# Altium schematic symbol library Interface_CAN_LIN.SchLib: 97 symbols (part 1 of 2)
Pins are listed as number, name and electrical type; pins without a type are passive.

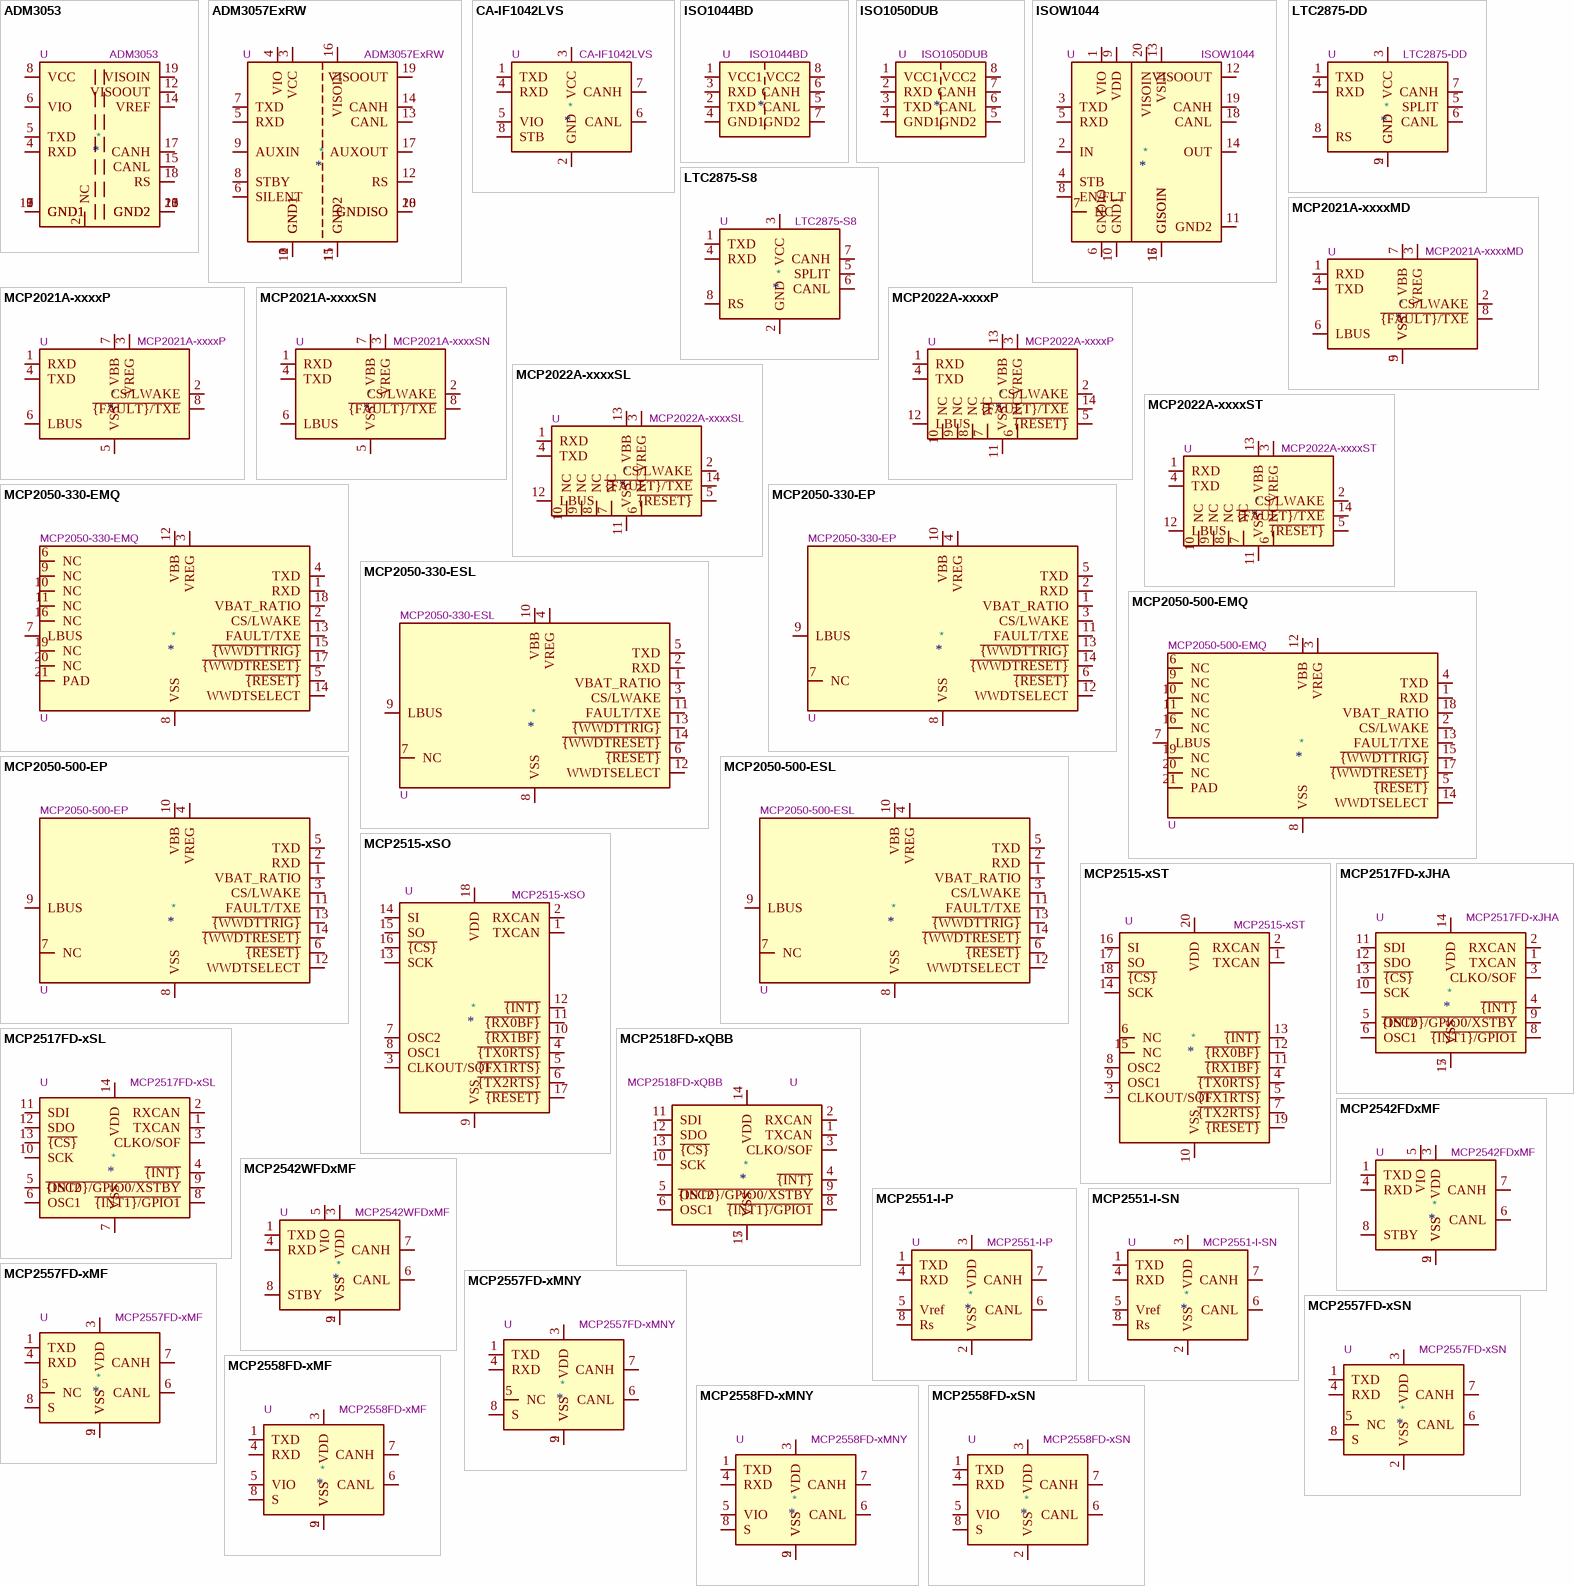
[diagram p0: symbols ADM3053 to MCP2558FD-xSN]

## ADM3053
designator *  value ADM3053  Reference: U
Isolated CAN Transceiver, integrated isolated DC-DC converter, 1Mbps; ki_keywords: protected; ki_fp_filters: SOIC*P1.27mm*; Footprint: Package_SO:SOIC-20W_7.5x12.8mm_P1.27mm; Datasheet: https://www.analog.com/media/en/technical-documentation/data-sheets/ADM3053.pdf; Description_: Isolated CAN Transceiver, integrated isolated DC-DC converter, 1Mbps
pins: 1 GND1, 2 NC, 3 GND1, 4 RXD, 5 TXD, 6 VIO, 7 GND1, 8 VCC, 9 GND1, 10 GND1, 11 GND2, 12 VISOOUT, 13 GND2, 14 VREF, 15 CANL, 16 GND2, 17 CANH, 18 RS, 19 VISOIN, 20 GND2

## ADM3057ExRW
designator *  value ADM3057ExRW  Reference: U
Isolated CAN FD Transceiver, integrated isolated DC-DC converter, 12Mbps, SOIC-20W; ki_keywords: can transceiver isolated protected; ki_fp_filters: SOIC*P1.27mm*; Footprint: Package_SO:SOIC-20W_7.5x12.8mm_P1.27mm; Datasheet: https://www.analog.com/media/en/technical-documentation/data-sheets/ADM3055E-3057E.pdf; Description_: Isolated CAN FD Transceiver, integrated isolated DC-DC converter, 12Mbps, SOIC-20W
pins: 1 GND1, 2 GND1, 3 VCC, 4 VIO, 5 RXD, 6 SILENT, 7 TXD, 8 STBY, 9 AUXIN, 10 GND1, 11 GND2, 12 RS, 13 CANL, 14 CANH, 15 GND2, 16 VISOIN, 17 AUXOUT, 18 GNDISO, 19 VISOOUT, 20 GNDISO

## CA-IF1042LVS
designator *  value CA-IF1042LVS  Reference: U
High-Speed CAN Transceiver up to 5 Mbps, separate VIO, standby mode, ±30V bus common mode voltage, 5V supply, SOIC-8; ki_keywords: chipanalog; ki_fp_filters: SOIC*3.9x4.9mm*P1.27mm*; Footprint: Package_SO:SOIC-8_3.9x4.9mm_P1.27mm; Datasheet: https://datasheet.lcsc.com/lcsc/2401191740_Chipanalog-CA-IF1042LS-Q1_C20598901.pdf; Description_: High-Speed CAN Transceiver up to 5 Mbps, separate VIO, standby mode, ±30V bus common mode voltage, 5V supply, SOIC-8
pins: 1 TXD, 2 GND, 3 VCC, 4 RXD, 5 VIO, 6 CANL, 7 CANH, 8 STB

## ISO1044BD
designator *  value ISO1044BD  Reference: U
Isolated CAN FD Transceiver, SOIC-8; ki_keywords: CAN-FD Isolated; ki_fp_filters: SOIC*3.9x4.9mm*P1.27mm*; Footprint: Package_SO:SOIC-8_3.9x4.9mm_P1.27mm; Datasheet: https://www.ti.com/lit/ds/symlink/iso1044.pdf; Description_: Isolated CAN FD Transceiver, SOIC-8
pins: 1 VCC1, 2 TXD, 3 RXD, 4 GND1, 5 CANL, 6 CANH, 7 GND2, 8 VCC2

## ISO1050DUB
designator *  value ISO1050DUB  Reference: U
Isolated CAN Transceiver, SOP-8; ki_keywords: CAN Isolated; ki_fp_filters: SOP*6.62x9.15mm*P2.54mm*; Footprint: Package_SO:SOP-8_6.62x9.15mm_P2.54mm; Datasheet: http://www.ti.com/lit/ds/symlink/iso1050.pdf; Description_: Isolated CAN Transceiver, SOP-8
pins: 1 VCC1, 2 RXD, 3 TXD, 4 GND1, 5 GND2, 6 CANL, 7 CANH, 8 VCC2

## ISOW1044
designator *  value ISOW1044  Reference: U
Isolated CAN FD Transceiver, Integrated DC-DC Converter, 5Mbps, Reinforced Isolation,  SOIC-20W; ki_keywords: can transceiver isolated protected integrated isolated supply; ki_fp_filters: SOIC*7.5x12.8mm*P1.27mm*; Footprint: Package_SO:SOIC-20W_7.5x12.8mm_P1.27mm; Datasheet: https://www.ti.com/lit/ds/symlink/isow1044.pdf; Description_: Isolated CAN FD Transceiver, Integrated DC-DC Converter, 5Mbps, Reinforced Isolation,  SOIC-20W
pins: 1 VIO, 2 IN, 3 TXD, 4 STB, 5 RXD, 6 GNDIO, 7 NC, 8 EN/FLT, 9 VDD, 10 GND1, 11 GND2, 12 VISOOUT, 13 VSIN, 14 OUT, 15 GISOIN, 16 GISOIN, 17 GISOIN, 18 CANL, 19 CANH, 20 VISOIN

## LTC2875-DD
designator *  value LTC2875-DD  Reference: U
High-Speed CAN Transceiver, 4Mbps, 3.3V or 5V supply, DFN-8; ki_fp_filters: DFN*1EP*3x3mm*P0.5mm*; Footprint: Package_DFN_QFN:DFN-8-1EP_3x3mm_P0.5mm_EP1.66x2.38mm; Datasheet: https://www.analog.com/media/en/technical-documentation/data-sheets/2875f.pdf; Description_: High-Speed CAN Transceiver, 4Mbps, 3.3V or 5V supply, DFN-8; ki_keywords: High-Speed CAN Transceiver
pins: 1 TXD, 2 GND, 3 VCC, 4 RXD, 5 SPLIT, 6 CANL, 7 CANH, 8 RS, 9 GND

## LTC2875-S8
designator *  value LTC2875-S8  Reference: U
High-Speed CAN Transceiver, 4Mbps, 3.3V or 5V supply, SOIC-8; ki_fp_filters: SOIC*P1.27mm*; Footprint: Package_SO:SOIC-8_3.9x4.9mm_P1.27mm; Datasheet: https://www.analog.com/media/en/technical-documentation/data-sheets/2875f.pdf; Description_: High-Speed CAN Transceiver, 4Mbps, 3.3V or 5V supply, SOIC-8; ki_keywords: High-Speed CAN Transceiver
pins: 1 TXD, 2 GND, 3 VCC, 4 RXD, 5 SPLIT, 6 CANL, 7 CANH, 8 RS

## MCP2021A-xxxxMD
designator *  value MCP2021A-xxxxMD  Reference: U
LIN Transceiver with Voltage Regulator, 3.3V/5V, DFN-8; ki_keywords: LIN Transceiver regulator; ki_fp_filters: DFN*1EP*4x4mm*P0.8mm*; Footprint: Package_DFN_QFN:DFN-8-1EP_4x4mm_P0.8mm_EP2.5x3.6mm; Datasheet: http://ww1.microchip.com/downloads/en/DeviceDoc/20002298C.pdf; Description_: LIN Transceiver with Voltage Regulator, 3.3V/5V, DFN-8
pins: 1 RXD, 2 CS/LWAKE, 3 VREG, 4 TXD, 5 VSS, 6 LBUS, 7 VBB, 8 ~{{FAULT}/TXE}, 9 VSS

## MCP2021A-xxxxP
designator *  value MCP2021A-xxxxP  Reference: U
LIN Transceiver with Voltage Regulator, 3.3V/5V, DIP-8; ki_keywords: LIN Transceiver regulator; ki_fp_filters: DIP*W7.62mm*; Footprint: Package_DIP:DIP-8_W7.62mm; Datasheet: http://ww1.microchip.com/downloads/en/DeviceDoc/20002298C.pdf; Description_: LIN Transceiver with Voltage Regulator, 3.3V/5V, DIP-8
pins: 1 RXD, 2 CS/LWAKE, 3 VREG, 4 TXD, 5 VSS, 6 LBUS, 7 VBB, 8 ~{{FAULT}/TXE}

## MCP2021A-xxxxSN
designator *  value MCP2021A-xxxxSN  Reference: U
LIN Transceiver with Voltage Regulator, 3.3V/5V, SOIC-8; ki_keywords: LIN Transceiver regulator; ki_fp_filters: SOIC*3.9x4.9mm*P1.27mm*; Footprint: Package_SO:SOIC-8_3.9x4.9mm_P1.27mm; Datasheet: http://ww1.microchip.com/downloads/en/DeviceDoc/20002298C.pdf; Description_: LIN Transceiver with Voltage Regulator, 3.3V/5V, SOIC-8
pins: 1 RXD, 2 CS/LWAKE, 3 VREG, 4 TXD, 5 VSS, 6 LBUS, 7 VBB, 8 ~{{FAULT}/TXE}

## MCP2022A-xxxxP
designator *  value MCP2022A-xxxxP  Reference: U
LIN Transceiver with Voltage Regulator, 3.3V/5V, DIP-14; ki_keywords: LIN Transceiver regulator; ki_fp_filters: DIP*W7.62mm*; Footprint: Package_DIP:DIP-14_W7.62mm; Datasheet: http://ww1.microchip.com/downloads/en/DeviceDoc/20002298C.pdf; Description_: LIN Transceiver with Voltage Regulator, 3.3V/5V, DIP-14
pins: 1 RXD, 2 CS/LWAKE, 3 VREG, 4 TXD, 5 ~{{RESET}}, 6 NC, 7 NC, 8 NC, 9 NC, 10 NC, 11 VSS, 12 LBUS, 13 VBB, 14 ~{{FAULT}/TXE}

## MCP2022A-xxxxSL
designator *  value MCP2022A-xxxxSL  Reference: U
LIN Transceiver with Voltage Regulator, 3.3V/5V, SOIC-14; ki_keywords: LIN Transceiver regulator; ki_fp_filters: SOIC*3.9x8.7mm*P1.27mm*; Footprint: Package_SO:SOIC-14_3.9x8.7mm_P1.27mm; Datasheet: http://ww1.microchip.com/downloads/en/DeviceDoc/20002298C.pdf; Description_: LIN Transceiver with Voltage Regulator, 3.3V/5V, SOIC-14
pins: 1 RXD, 2 CS/LWAKE, 3 VREG, 4 TXD, 5 ~{{RESET}}, 6 NC, 7 NC, 8 NC, 9 NC, 10 NC, 11 VSS, 12 LBUS, 13 VBB, 14 ~{{FAULT}/TXE}

## MCP2022A-xxxxST
designator *  value MCP2022A-xxxxST  Reference: U
LIN Transceiver with Voltage Regulator, 3.3V/5V, TSSOP-14; ki_keywords: LIN Transceiver regulator; ki_fp_filters: TSSOP*4.4x5mm*P0.65mm*; Footprint: Package_SO:TSSOP-14_4.4x5mm_P0.65mm; Datasheet: http://ww1.microchip.com/downloads/en/DeviceDoc/20002298C.pdf; Description_: LIN Transceiver with Voltage Regulator, 3.3V/5V, TSSOP-14
pins: 1 RXD, 2 CS/LWAKE, 3 VREG, 4 TXD, 5 ~{{RESET}}, 6 NC, 7 NC, 8 NC, 9 NC, 10 NC, 11 VSS, 12 LBUS, 13 VBB, 14 ~{{FAULT}/TXE}

## MCP2050-330-EMQ
designator *  value MCP2050-330-EMQ  Reference: U
LIN Transceiver with Voltage Regulator, 3.3V, QFN-20; ki_keywords: LIN transceiver regulator; ki_fp_filters: QFN*1EP*5x5mm*P0.65mm*; Footprint: Package_DFN_QFN:QFN-20-1EP_5x5mm_P0.65mm_EP3.35x3.35mm; Datasheet: http://ww1.microchip.com/downloads/en/DeviceDoc/22299B.pdf; Description_: LIN Transceiver with Voltage Regulator, 3.3V, QFN-20
pins: 1 RXD, 2 CS/LWAKE, 3 VREG, 4 TXD, 5 ~{{RESET}}, 6 NC, 7 LBUS, 8 VSS, 9 NC, 10 NC, 11 NC, 12 VBB, 13 FAULT/TXE, 14 WWDTSELECT, 15 ~{{WWDTTRIG}}, 16 NC, 17 ~{{WWDTRESET}}, 18 VBAT_RATIO, 19 NC, 20 NC, 21 PAD

## MCP2050-330-EP
designator *  value MCP2050-330-EP  Reference: U
LIN Transceiver with Voltage Regulator, 3.3V, PDIP; ki_keywords: LIN transceiver regulator; ki_fp_filters: DIP*W7.62mm*; Footprint: Package_DIP:DIP-14_W7.62mm; Datasheet: http://ww1.microchip.com/downloads/en/DeviceDoc/22299B.pdf; Description_: LIN Transceiver with Voltage Regulator, 3.3V, PDIP
pins: 1 VBAT_RATIO, 2 RXD, 3 CS/LWAKE, 4 VREG, 5 TXD, 6 ~{{RESET}}, 7 NC, 8 VSS, 9 LBUS, 10 VBB, 11 FAULT/TXE, 12 WWDTSELECT, 13 ~{{WWDTTRIG}}, 14 ~{{WWDTRESET}}

## MCP2050-330-ESL
designator *  value MCP2050-330-ESL  Reference: U
LIN Transceiver with Voltage Regulator, 3.3V, SOIC-14; ki_keywords: LIN transceiver regulator; ki_fp_filters: SOIC*3.9x8.7mm*P1.27mm*; Footprint: Package_SO:SOIC-14_3.9x8.7mm_P1.27mm; Datasheet: http://ww1.microchip.com/downloads/en/DeviceDoc/22299B.pdf; Description_: LIN Transceiver with Voltage Regulator, 3.3V, SOIC-14
pins: 1 VBAT_RATIO, 2 RXD, 3 CS/LWAKE, 4 VREG, 5 TXD, 6 ~{{RESET}}, 7 NC, 8 VSS, 9 LBUS, 10 VBB, 11 FAULT/TXE, 12 WWDTSELECT, 13 ~{{WWDTTRIG}}, 14 ~{{WWDTRESET}}

## MCP2050-500-EMQ
designator *  value MCP2050-500-EMQ  Reference: U
LIN Transceiver with Voltage Regulator, 5V, QFN-20; ki_keywords: LIN transceiver regulator; ki_fp_filters: QFN*1EP*5x5mm*P0.65mm*; Footprint: Package_DFN_QFN:QFN-20-1EP_5x5mm_P0.65mm_EP3.35x3.35mm; Datasheet: http://ww1.microchip.com/downloads/en/DeviceDoc/22299B.pdf; Description_: LIN Transceiver with Voltage Regulator, 5V, QFN-20
pins: 1 RXD, 2 CS/LWAKE, 3 VREG, 4 TXD, 5 ~{{RESET}}, 6 NC, 7 LBUS, 8 VSS, 9 NC, 10 NC, 11 NC, 12 VBB, 13 FAULT/TXE, 14 WWDTSELECT, 15 ~{{WWDTTRIG}}, 16 NC, 17 ~{{WWDTRESET}}, 18 VBAT_RATIO, 19 NC, 20 NC, 21 PAD

## MCP2050-500-EP
designator *  value MCP2050-500-EP  Reference: U
LIN Transceiver with Voltage Regulator, 5V, PDIP; ki_keywords: LIN transceiver regulator; ki_fp_filters: DIP*W7.62mm*; Footprint: Package_DIP:DIP-14_W7.62mm; Datasheet: http://ww1.microchip.com/downloads/en/DeviceDoc/22299B.pdf; Description_: LIN Transceiver with Voltage Regulator, 5V, PDIP
pins: 1 VBAT_RATIO, 2 RXD, 3 CS/LWAKE, 4 VREG, 5 TXD, 6 ~{{RESET}}, 7 NC, 8 VSS, 9 LBUS, 10 VBB, 11 FAULT/TXE, 12 WWDTSELECT, 13 ~{{WWDTTRIG}}, 14 ~{{WWDTRESET}}

## MCP2050-500-ESL
designator *  value MCP2050-500-ESL  Reference: U
LIN Transceiver with Voltage Regulator, 5V, SOIC-14; ki_keywords: LIN transceiver regulator; ki_fp_filters: SOIC*3.9x8.7mm*P1.27mm*; Footprint: Package_SO:SOIC-14_3.9x8.7mm_P1.27mm; Datasheet: http://ww1.microchip.com/downloads/en/DeviceDoc/22299B.pdf; Description_: LIN Transceiver with Voltage Regulator, 5V, SOIC-14
pins: 1 VBAT_RATIO, 2 RXD, 3 CS/LWAKE, 4 VREG, 5 TXD, 6 ~{{RESET}}, 7 NC, 8 VSS, 9 LBUS, 10 VBB, 11 FAULT/TXE, 12 WWDTSELECT, 13 ~{{WWDTTRIG}}, 14 ~{{WWDTRESET}}

## MCP2515-xSO
designator *  value MCP2515-xSO  Reference: U
Stand-Alone CAN Controller with SPI Interface, SOIC-18; ki_keywords: CAN Controller SPI; ki_fp_filters: SOIC*7.5x11.6mm*P1.27mm*; Footprint: Package_SO:SOIC-18W_7.5x11.6mm_P1.27mm; Datasheet: http://ww1.microchip.com/downloads/en/DeviceDoc/21801e.pdf; Description_: Stand-Alone CAN Controller with SPI Interface, SOIC-18
pins: 1 TXCAN, 2 RXCAN, 3 CLKOUT/SOF, 4 ~{{TX0RTS}}, 5 ~{{TX1RTS}}, 6 ~{{TX2RTS}}, 7 OSC2, 8 OSC1, 9 VSS, 10 ~{{RX1BF}}, 11 ~{{RX0BF}}, 12 ~{{INT}}, 13 SCK, 14 SI, 15 SO, 16 ~{{CS}}, 17 ~{{RESET}}, 18 VDD

## MCP2515-xST
designator *  value MCP2515-xST  Reference: U
Stand-Alone CAN Controller with SPI Interface, TSSOP-20; ki_keywords: CAN Controller SPI; ki_fp_filters: TSSOP*4.4x6.5mm*P0.65mm*; Footprint: Package_SO:TSSOP-20_4.4x6.5mm_P0.65mm; Datasheet: http://ww1.microchip.com/downloads/en/DeviceDoc/21801e.pdf; Description_: Stand-Alone CAN Controller with SPI Interface, TSSOP-20
pins: 1 TXCAN, 2 RXCAN, 3 CLKOUT/SOF, 4 ~{{TX0RTS}}, 5 ~{{TX1RTS}}, 6 NC, 7 ~{{TX2RTS}}, 8 OSC2, 9 OSC1, 10 VSS, 11 ~{{RX1BF}}, 12 ~{{RX0BF}}, 13 ~{{INT}}, 14 SCK, 15 NC, 16 SI, 17 SO, 18 ~{{CS}}, 19 ~{{RESET}}, 20 VDD

## MCP2517FD-xJHA
designator *  value MCP2517FD-xJHA  Reference: U
External CAN FD Controller with SPI Interface, VDFN-14; ki_keywords: CAN FD Controller SPI; ki_fp_filters: DFN*1EP*3x4.5mm*P0.65mm*; Footprint: Package_DFN_QFN:DFN-14-1EP_3x4.5mm_P0.65mm_EP1.65x4.25mm; Datasheet: https://ww1.microchip.com/downloads/en/DeviceDoc/MCP2517FD-External-CAN-FD-Controller-with-SPI-Interface-20005688B.pdf; Description_: External CAN FD Controller with SPI Interface, VDFN-14
pins: 1 TXCAN, 2 RXCAN, 3 CLKO/SOF, 4 ~{{INT}}, 5 OSC2, 6 OSC1, 7 VSS, 8 ~{{INT1}/GPIO1}, 9 ~{{INT0}/GPIO0/XSTBY}, 10 SCK, 11 SDI, 12 SDO, 13 ~{{CS}}, 14 VDD, 15 VSS

## MCP2517FD-xSL
designator *  value MCP2517FD-xSL  Reference: U
External CAN FD Controller with SPI Interface, SOIC-14; ki_keywords: CAN FD Controller SPI; ki_fp_filters: SOIC*3.9x8.7mm*P1.27mm*; Footprint: Package_SO:SOIC-14_3.9x8.7mm_P1.27mm; Datasheet: https://ww1.microchip.com/downloads/en/DeviceDoc/MCP2517FD-External-CAN-FD-Controller-with-SPI-Interface-20005688B.pdf; Description_: External CAN FD Controller with SPI Interface, SOIC-14
pins: 1 TXCAN, 2 RXCAN, 3 CLKO/SOF, 4 ~{{INT}}, 5 OSC2, 6 OSC1, 7 VSS, 8 ~{{INT1}/GPIO1}, 9 ~{{INT0}/GPIO0/XSTBY}, 10 SCK, 11 SDI, 12 SDO, 13 ~{{CS}}, 14 VDD

## MCP2518FD-xQBB
designator *  value MCP2518FD-xQBB  Reference: U
CAN FD Controller with SPI Interface, up to 8 Mbps, Vdd 2.7..5.5V,  functional safety ready, VDFN-14; ki_keywords: microchip; ki_fp_filters: DFN*1EP*3x4.5mm*P0.65mm*; Footprint: Package_DFN_QFN:DFN-14-1EP_3x4.5mm_P0.65mm_EP1.65x4.25mm; Datasheet: https://ww1.microchip.com/downloads/aemDocuments/documents/OTH/ProductDocuments/DataSheets/External-CAN-FD-Controller-with-SPI-Interface-DS20006027B.pdf; Description_: CAN FD Controller with SPI Interface, up to 8 Mbps, Vdd 2.7..5.5V,  functional safety ready, VDFN-14
pins: 1 TXCAN, 2 RXCAN, 3 CLKO/SOF, 4 ~{{INT}}, 5 OSC2, 6 OSC1, 7 VSS, 8 ~{{INT1}/GPIO1}, 9 ~{{INT0}/GPIO0/XSTBY}, 10 SCK, 11 SDI, 12 SDO, 13 ~{{CS}}, 14 VDD, 15 VSS

## MCP2542FDxMF
designator *  value MCP2542FDxMF  Reference: U
CAN-FD Transceiver, Wake-Up on CAN activity, 8Mbps, 5V supply, STBY pin, 3x3 DFN-8; ki_keywords: CAN transceiver; ki_fp_filters: DFN*1EP*3x3mm*P0.65mm*; Footprint: Package_DFN_QFN:DFN-8-1EP_3x3mm_P0.65mm_EP1.55x2.4mm; Datasheet: http://ww1.microchip.com/downloads/en/DeviceDoc/MCP2542FD-4FD-MCP2542WFD-4WFD-Data-Sheet20005514B.pdf; Description_: CAN-FD Transceiver, Wake-Up on CAN activity, 8Mbps, 5V supply, STBY pin, 3x3 DFN-8
pins: 1 TXD, 2 VSS, 3 VDD, 4 RXD, 5 VIO, 6 CANL, 7 CANH, 8 STBY, 9 VSS

## MCP2542WFDxMF
designator *  value MCP2542WFDxMF  Reference: U
CAN-FD Transceiver, Wake-Up on CAN Pattern, 8Mbps, 5V supply, STBY pin, 3x3 DFN-8; ki_keywords: CAN transceiver WUP; ki_fp_filters: DFN*1EP*3x3mm*P0.65mm*; Footprint: Package_DFN_QFN:DFN-8-1EP_3x3mm_P0.65mm_EP1.55x2.4mm; Datasheet: http://ww1.microchip.com/downloads/en/DeviceDoc/MCP2542FD-4FD-MCP2542WFD-4WFD-Data-Sheet20005514B.pdf; Description_: CAN-FD Transceiver, Wake-Up on CAN Pattern, 8Mbps, 5V supply, STBY pin, 3x3 DFN-8
pins: 1 TXD, 2 VSS, 3 VDD, 4 RXD, 5 VIO, 6 CANL, 7 CANH, 8 STBY, 9 VSS

## MCP2551-I-P
designator *  value MCP2551-I-P  Reference: U
High-Speed CAN Transceiver, 1Mbps, 5V supply, DIP-8; ki_fp_filters: DIP*W7.62mm*; Footprint: Package_DIP:DIP-8_W7.62mm; Datasheet: http://ww1.microchip.com/downloads/en/devicedoc/21667d.pdf; Description_: High-Speed CAN Transceiver, 1Mbps, 5V supply, DIP-8; ki_keywords: High-Speed CAN Transceiver
pins: 1 TXD, 2 VSS, 3 VDD, 4 RXD, 5 Vref, 6 CANL, 7 CANH, 8 Rs

## MCP2551-I-SN
designator *  value MCP2551-I-SN  Reference: U
High-Speed CAN Transceiver, 1Mbps, 5V supply, SOIC-8; ki_fp_filters: SOIC*3.9x4.9mm*P1.27mm*; Footprint: Package_SO:SOIC-8_3.9x4.9mm_P1.27mm; Datasheet: http://ww1.microchip.com/downloads/en/devicedoc/21667d.pdf; Description_: High-Speed CAN Transceiver, 1Mbps, 5V supply, SOIC-8; ki_keywords: High-Speed CAN Transceiver
pins: 1 TXD, 2 VSS, 3 VDD, 4 RXD, 5 Vref, 6 CANL, 7 CANH, 8 Rs

## MCP2557FD-xMF
designator *  value MCP2557FD-xMF  Reference: U
CAN FD Transceiver with Silent Mode, up to 8 Mbps, DFN-8; ki_fp_filters: DFN*1EP*3x3mm*P0.65mm*; Footprint: Package_DFN_QFN:DFN-8-1EP_3x3mm_P0.65mm_EP1.55x2.4mm; Datasheet: https://ww1.microchip.com/downloads/en/DeviceDoc/20005533A.pdf; Description_: CAN FD Transceiver with Silent Mode, up to 8 Mbps, DFN-8; ki_keywords: CAN FD Transceiver
pins: 1 TXD, 2 VSS, 3 VDD, 4 RXD, 5 NC, 6 CANL, 7 CANH, 8 S, 9 VSS

## MCP2557FD-xMNY
designator *  value MCP2557FD-xMNY  Reference: U
CAN FD Transceiver with Silent Mode, up to 8 Mbps, TDFN-8; ki_fp_filters: TDFN*1EP*3x2mm*P0.5mm*; Footprint: Package_DFN_QFN:TDFN-8-1EP_3x2mm_P0.5mm_EP1.80x1.65mm; Datasheet: https://ww1.microchip.com/downloads/en/DeviceDoc/20005533A.pdf; Description_: CAN FD Transceiver with Silent Mode, up to 8 Mbps, TDFN-8; ki_keywords: CAN FD Transceiver
pins: 1 TXD, 2 VSS, 3 VDD, 4 RXD, 5 NC, 6 CANL, 7 CANH, 8 S, 9 VSS

## MCP2557FD-xSN
designator *  value MCP2557FD-xSN  Reference: U
CAN FD Transceiver with Silent Mode, up to 8 Mbps, SOIC-8; ki_fp_filters: SOIC*3.9x4.9*P1.27mm*; Footprint: Package_SO:SOIC-8_3.9x4.9mm_P1.27mm; Datasheet: https://ww1.microchip.com/downloads/en/DeviceDoc/20005533A.pdf; Description_: CAN FD Transceiver with Silent Mode, up to 8 Mbps, SOIC-8; ki_keywords: CAN FD Transceiver
pins: 1 TXD, 2 VSS, 3 VDD, 4 RXD, 5 NC, 6 CANL, 7 CANH, 8 S

## MCP2558FD-xMF
designator *  value MCP2558FD-xMF  Reference: U
CAN FD Transceiver with Silent Mode, up to 8 Mbps, DFN-8; ki_fp_filters: DFN*1EP*3x3mm*P0.65mm*; Footprint: Package_DFN_QFN:DFN-8-1EP_3x3mm_P0.65mm_EP1.55x2.4mm; Datasheet: https://ww1.microchip.com/downloads/en/DeviceDoc/20005533A.pdf; Description_: CAN FD Transceiver with Silent Mode, up to 8 Mbps, DFN-8; ki_keywords: CAN FD Transceiver
pins: 1 TXD, 2 VSS, 3 VDD, 4 RXD, 5 VIO, 6 CANL, 7 CANH, 8 S, 9 VSS

## MCP2558FD-xMNY
designator *  value MCP2558FD-xMNY  Reference: U
CAN FD Transceiver with Silent Mode, up to 8 Mbps, TDFN-8; ki_fp_filters: TDFN*1EP*3x2mm*P0.5mm*; Footprint: Package_DFN_QFN:TDFN-8-1EP_3x2mm_P0.5mm_EP1.80x1.65mm; Datasheet: https://ww1.microchip.com/downloads/en/DeviceDoc/20005533A.pdf; Description_: CAN FD Transceiver with Silent Mode, up to 8 Mbps, TDFN-8; ki_keywords: CAN FD Transceiver
pins: 1 TXD, 2 VSS, 3 VDD, 4 RXD, 5 VIO, 6 CANL, 7 CANH, 8 S, 9 VSS

## MCP2558FD-xSN
designator *  value MCP2558FD-xSN  Reference: U
CAN FD Transceiver with Silent Mode, up to 8 Mbps, SOIC-8; ki_fp_filters: SOIC*3.9x4.9*P1.27mm*; Footprint: Package_SO:SOIC-8_3.9x4.9mm_P1.27mm; Datasheet: https://ww1.microchip.com/downloads/en/DeviceDoc/20005533A.pdf; Description_: CAN FD Transceiver with Silent Mode, up to 8 Mbps, SOIC-8; ki_keywords: CAN FD Transceiver
pins: 1 TXD, 2 VSS, 3 VDD, 4 RXD, 5 VIO, 6 CANL, 7 CANH, 8 S

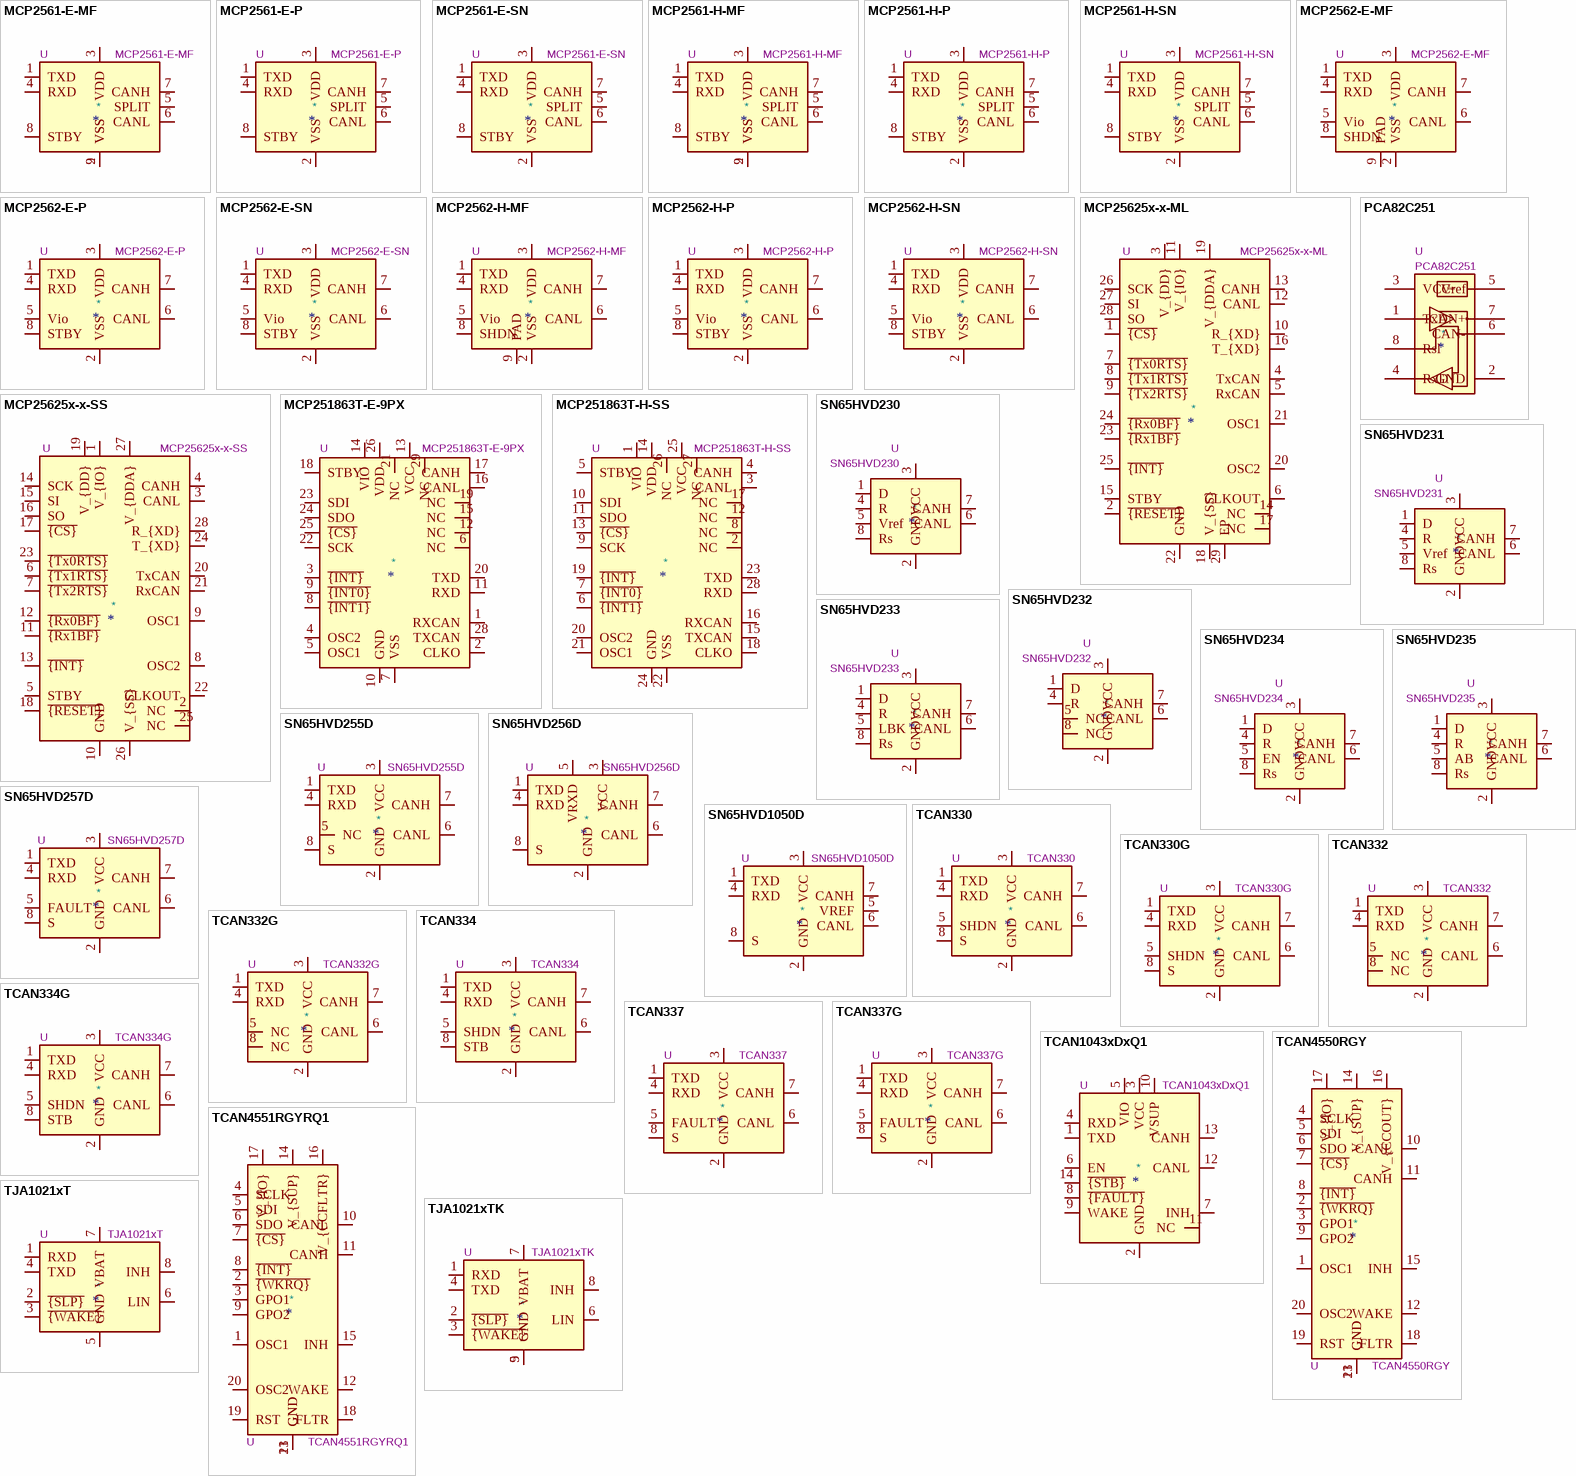
[diagram p1: symbols MCP2561-E-MF to TJA1021xTK]

## MCP2561-E-MF
designator *  value MCP2561-E-MF  Reference: U
High-Speed CAN Transceiver, 1Mbps, 5V supply, SPLIT pin, -40C to +125C, DFN-8; ki_fp_filters: DFN*1EP*3x3mm*P0.65mm*; Footprint: Package_DFN_QFN:DFN-8-1EP_3x3mm_P0.65mm_EP1.55x2.4mm; Datasheet: http://ww1.microchip.com/downloads/en/DeviceDoc/25167A.pdf; Description_: High-Speed CAN Transceiver, 1Mbps, 5V supply, SPLIT pin, -40C to +125C, DFN-8; ki_keywords: High-Speed CAN Transceiver
pins: 1 TXD, 2 VSS, 3 VDD, 4 RXD, 5 SPLIT, 6 CANL, 7 CANH, 8 STBY, 9 VSS

## MCP2561-E-P
designator *  value MCP2561-E-P  Reference: U
High-Speed CAN Transceiver, 1Mbps, 5V supply, SPLIT pin, -40C to +125C, DIP-8; ki_fp_filters: DIP*W7.62mm*; Footprint: Package_DIP:DIP-8_W7.62mm; Datasheet: http://ww1.microchip.com/downloads/en/DeviceDoc/25167A.pdf; Description_: High-Speed CAN Transceiver, 1Mbps, 5V supply, SPLIT pin, -40C to +125C, DIP-8; ki_keywords: High-Speed CAN Transceiver
pins: 1 TXD, 2 VSS, 3 VDD, 4 RXD, 5 SPLIT, 6 CANL, 7 CANH, 8 STBY

## MCP2561-E-SN
designator *  value MCP2561-E-SN  Reference: U
High-Speed CAN Transceiver, 1Mbps, 5V supply, SPLIT pin, -40C to +125C, SOIC-8; ki_fp_filters: SOIC*3.9x4.9mm*P1.27mm*; Footprint: Package_SO:SOIC-8_3.9x4.9mm_P1.27mm; Datasheet: http://ww1.microchip.com/downloads/en/DeviceDoc/25167A.pdf; Description_: High-Speed CAN Transceiver, 1Mbps, 5V supply, SPLIT pin, -40C to +125C, SOIC-8; ki_keywords: High-Speed CAN Transceiver
pins: 1 TXD, 2 VSS, 3 VDD, 4 RXD, 5 SPLIT, 6 CANL, 7 CANH, 8 STBY

## MCP2561-H-MF
designator *  value MCP2561-H-MF  Reference: U
High-Speed CAN Transceiver, 1Mbps, 5V supply, SPLIT pin, -40C to +150C, DFN-8; ki_fp_filters: DFN*1EP*3x3mm*P0.65mm*; Footprint: Package_DFN_QFN:DFN-8-1EP_3x3mm_P0.65mm_EP1.55x2.4mm; Datasheet: http://ww1.microchip.com/downloads/en/DeviceDoc/25167A.pdf; Description_: High-Speed CAN Transceiver, 1Mbps, 5V supply, SPLIT pin, -40C to +150C, DFN-8; ki_keywords: High-Speed CAN Transceiver
pins: 1 TXD, 2 VSS, 3 VDD, 4 RXD, 5 SPLIT, 6 CANL, 7 CANH, 8 STBY, 9 VSS

## MCP2561-H-P
designator *  value MCP2561-H-P  Reference: U
High-Speed CAN Transceiver, 1Mbps, 5V supply, SPLIT pin, -40C to +150C, DIP-8; ki_fp_filters: DIP*W7.62mm*; Footprint: Package_DIP:DIP-8_W7.62mm; Datasheet: http://ww1.microchip.com/downloads/en/DeviceDoc/25167A.pdf; Description_: High-Speed CAN Transceiver, 1Mbps, 5V supply, SPLIT pin, -40C to +150C, DIP-8; ki_keywords: High-Speed CAN Transceiver
pins: 1 TXD, 2 VSS, 3 VDD, 4 RXD, 5 SPLIT, 6 CANL, 7 CANH, 8 STBY

## MCP2561-H-SN
designator *  value MCP2561-H-SN  Reference: U
High-Speed CAN Transceiver, 1Mbps, 5V supply, SPLIT pin, -40C to +150C, SOIC-8; ki_fp_filters: SOIC*3.9x4.9mm*P1.27mm*; Footprint: Package_SO:SOIC-8_3.9x4.9mm_P1.27mm; Datasheet: http://ww1.microchip.com/downloads/en/DeviceDoc/25167A.pdf; Description_: High-Speed CAN Transceiver, 1Mbps, 5V supply, SPLIT pin, -40C to +150C, SOIC-8; ki_keywords: High-Speed CAN Transceiver
pins: 1 TXD, 2 VSS, 3 VDD, 4 RXD, 5 SPLIT, 6 CANL, 7 CANH, 8 STBY

## MCP2562-E-MF
designator *  value MCP2562-E-MF  Reference: U
High-Speed CAN Transceiver, 1Mbps, 5V supply, Vio pin, -40C to +125C, DFN-8; ki_fp_filters: DFN*1EP*3x3mm*P0.65mm*; Footprint: Package_DFN_QFN:DFN-8-1EP_3x3mm_P0.65mm_EP1.55x2.4mm; Datasheet: http://ww1.microchip.com/downloads/en/DeviceDoc/25167A.pdf; Description_: High-Speed CAN Transceiver, 1Mbps, 5V supply, Vio pin, -40C to +125C, DFN-8; ki_keywords: High-Speed CAN Transceiver
pins: 1 TXD, 2 VSS, 3 VDD, 4 RXD, 5 Vio, 6 CANL, 7 CANH, 8 SHDN, 9 PAD

## MCP2562-E-P
designator *  value MCP2562-E-P  Reference: U
High-Speed CAN Transceiver, 1Mbps, 5V supply, Vio pin, -40C to +125C, DIP-8; ki_fp_filters: DIP*W7.62mm*; Footprint: Package_DIP:DIP-8_W7.62mm; Datasheet: http://ww1.microchip.com/downloads/en/DeviceDoc/25167A.pdf; Description_: High-Speed CAN Transceiver, 1Mbps, 5V supply, Vio pin, -40C to +125C, DIP-8; ki_keywords: High-Speed CAN Transceiver
pins: 1 TXD, 2 VSS, 3 VDD, 4 RXD, 5 Vio, 6 CANL, 7 CANH, 8 STBY

## MCP2562-E-SN
designator *  value MCP2562-E-SN  Reference: U
High-Speed CAN Transceiver, 1Mbps, 5V supply, Vio pin, -40C to +125C, SOIC-8; ki_fp_filters: SOIC*3.9x4.9mm*P1.27mm*; Footprint: Package_SO:SOIC-8_3.9x4.9mm_P1.27mm; Datasheet: http://ww1.microchip.com/downloads/en/DeviceDoc/25167A.pdf; Description_: High-Speed CAN Transceiver, 1Mbps, 5V supply, Vio pin, -40C to +125C, SOIC-8; ki_keywords: High-Speed CAN Transceiver
pins: 1 TXD, 2 VSS, 3 VDD, 4 RXD, 5 Vio, 6 CANL, 7 CANH, 8 STBY

## MCP2562-H-MF
designator *  value MCP2562-H-MF  Reference: U
High-Speed CAN Transceiver, 1Mbps, 5V supply, Vio pin, -40C to +150C, DFN-8; ki_fp_filters: DFN*1EP*3x3mm*P0.65mm*; Footprint: Package_DFN_QFN:DFN-8-1EP_3x3mm_P0.65mm_EP1.55x2.4mm; Datasheet: http://ww1.microchip.com/downloads/en/DeviceDoc/25167A.pdf; Description_: High-Speed CAN Transceiver, 1Mbps, 5V supply, Vio pin, -40C to +150C, DFN-8; ki_keywords: High-Speed CAN Transceiver
pins: 1 TXD, 2 VSS, 3 VDD, 4 RXD, 5 Vio, 6 CANL, 7 CANH, 8 SHDN, 9 PAD

## MCP2562-H-P
designator *  value MCP2562-H-P  Reference: U
High-Speed CAN Transceiver, 1Mbps, 5V supply, Vio pin, -40C to +150C, DIP-8; ki_fp_filters: DIP*W7.62mm*; Footprint: Package_DIP:DIP-8_W7.62mm; Datasheet: http://ww1.microchip.com/downloads/en/DeviceDoc/25167A.pdf; Description_: High-Speed CAN Transceiver, 1Mbps, 5V supply, Vio pin, -40C to +150C, DIP-8; ki_keywords: High-Speed CAN Transceiver
pins: 1 TXD, 2 VSS, 3 VDD, 4 RXD, 5 Vio, 6 CANL, 7 CANH, 8 STBY

## MCP2562-H-SN
designator *  value MCP2562-H-SN  Reference: U
High-Speed CAN Transceiver, 1Mbps, 5V supply, Vio pin, -40C to +150C, SOIC-8; ki_fp_filters: SOIC*3.9x4.9mm*P1.27mm*; Footprint: Package_SO:SOIC-8_3.9x4.9mm_P1.27mm; Datasheet: http://ww1.microchip.com/downloads/en/DeviceDoc/25167A.pdf; Description_: High-Speed CAN Transceiver, 1Mbps, 5V supply, Vio pin, -40C to +150C, SOIC-8; ki_keywords: High-Speed CAN Transceiver
pins: 1 TXD, 2 VSS, 3 VDD, 4 RXD, 5 Vio, 6 CANL, 7 CANH, 8 STBY

## MCP25625x-x-ML
designator *  value MCP25625x-x-ML  Reference: U
Stand-Alone CAN Controller with SPI Interface and integated Transceiver, VQFN-28; ki_keywords: Microchip CAN-2.0B MCP25625-E/ML MCP25625T-E/ML; ki_fp_filters: *QFN*6x6mm*P0.65mm*EP4.2*4.2*; Footprint: Package_DFN_QFN:QFN-28-1EP_6x6mm_P0.65mm_EP4.25x4.25mm; Datasheet: https://ww1.microchip.com/downloads/aemDocuments/documents/OTH/ProductDocuments/DataSheets/MCP25625-CAN-Controller-Data-Sheet-20005282C.pdf; Description_: Stand-Alone CAN Controller with SPI Interface and integated Transceiver, VQFN-28
pins: 1 ~{{CS}}, 2 ~{{RESET}}, 3 V_{DD}, 4 TxCAN, 5 RxCAN, 6 CLKOUT, 7 ~{{Tx0RTS}}, 8 ~{{Tx1RTS}}, 9 ~{{Tx2RTS}}, 10 R_{XD}, 11 V_{IO}, 12 CANL, 13 CANH, 14 NC, 15 STBY, 16 T_{XD}, 17 NC, 18 V_{SS}, 19 V_{DDA}, 20 OSC2, 21 OSC1, 22 GND, 23 ~{{Rx1BF}}, 24 ~{{Rx0BF}}, 25 ~{{INT}}, 26 SCK, 27 SI, 28 SO, 29 EP

## MCP25625x-x-SS
designator *  value MCP25625x-x-SS  Reference: U
Stand-Alone CAN Controller with SPI Interface and integated Transceiver, SSOP-28; ki_keywords: Microchip CAN-2.0B MCP25625-E/SS MCP25625T-E/SS; ki_fp_filters: SSOP*5.3x10.2mm*P0.65mm*; Footprint: Package_SO:SSOP-28_5.3x10.2mm_P0.65mm; Datasheet: https://ww1.microchip.com/downloads/aemDocuments/documents/OTH/ProductDocuments/DataSheets/MCP25625-CAN-Controller-Data-Sheet-20005282C.pdf; Description_: Stand-Alone CAN Controller with SPI Interface and integated Transceiver, SSOP-28
pins: 1 V_{IO}, 2 NC, 3 CANL, 4 CANH, 5 STBY, 6 ~{{Tx1RTS}}, 7 ~{{Tx2RTS}}, 8 OSC2, 9 OSC1, 10 GND, 11 ~{{Rx1BF}}, 12 ~{{Rx0BF}}, 13 ~{{INT}}, 14 SCK, 15 SI, 16 SO, 17 ~{{CS}}, 18 ~{{RESET}}, 19 V_{DD}, 20 TxCAN, 21 RxCAN, 22 CLKOUT, 23 ~{{Tx0RTS}}, 24 T_{XD}, 25 NC, 26 V_{SS}, 27 V_{DDA}, 28 R_{XD}

## MCP251863T-E-9PX
designator *  value MCP251863T-E-9PX  Reference: U
External CAN FD Controller with Integrated Transceiver, VQFN-28; ki_keywords: CAN FD Controller Transceiver SPI; ki_fp_filters: VQFN*5x5mm*P0.5mm*; Footprint: Package_DFN_QFN:VQFN-28-1EP_5x5mm_P0.5mm_EP3.25x3.25mm; Datasheet: https://cz.mouser.com/datasheet/2/268/MCP251863_External_CAN_FD_Controller_with_Integrat-3442054.pdf; Description_: External CAN FD Controller with Integrated Transceiver, VQFN-28
pins: 1 RXCAN, 2 CLKO, 3 ~{{INT}}, 4 OSC2, 5 OSC1, 6 NC, 7 VSS, 8 ~{{INT1}}, 9 ~{{INT0}}, 10 GND, 11 RXD, 12 NC, 13 VCC, 14 VIO, 15 NC, 16 CANL, 17 CANH, 18 STBY, 19 NC, 20 TXD, 21 NC, 22 SCK, 23 SDI, 24 SDO, 25 ~{{CS}}, 26 VDD, 28 TXCAN, 29 NC

## MCP251863T-H-SS
designator *  value MCP251863T-H-SS  Reference: U
External CAN FD Controller with Integrated Transceiver, SSOP-28; ki_keywords: CAN FD Controller Transceiver SPI; ki_fp_filters: SSOP*5.3x10.2mm*P0.65mm*; Footprint: Package_SO:SSOP-28_5.3x10.2mm_P0.65mm; Datasheet: https://cz.mouser.com/datasheet/2/268/MCP251863_External_CAN_FD_Controller_with_Integrat-3442054.pdf; Description_: External CAN FD Controller with Integrated Transceiver, SSOP-28
pins: 1 VIO, 2 NC, 3 CANL, 4 CANH, 5 STBY, 6 ~{{INT1}}, 7 ~{{INT0}}, 8 NC, 9 SCK, 10 SDI, 11 SDO, 12 NC, 13 ~{{CS}}, 14 VDD, 15 TXCAN, 16 RXCAN, 17 NC, 18 CLKO, 19 ~{{INT}}, 20 OSC2, 21 OSC1, 22 VSS, 23 TXD, 24 GND, 25 VCC, 26 NC, 27 NC, 28 RXD

## PCA82C251
designator *  value PCA82C251  Reference: U
CAN Transceiver for 24V Systems, SO-8; ki_keywords: BUS CAN; ki_fp_filters: SO*3.9x4.9mm*P1.27mm*; Footprint: Package_SO:SO-8_3.9x4.9mm_P1.27mm; Datasheet: http://www.nxp.com/docs/en/data-sheet/PCA82C251.pdf; Description_: CAN Transceiver for 24V Systems, SO-8
pins: 1 TxD, 2 GND, 3 VCC, 4 RxD, 5 Vref, 6 CAN-, 7 CAN+, 8 Rsl
text: Volt

## SN65HVD230
designator *  value SN65HVD230  Reference: U
CAN Bus Transceivers, 3.3V, 1Mbps, Low-Power capabilities, SOIC-8; ki_keywords: can transeiver ti low-power; ki_fp_filters: SOIC*3.9x4.9mm*P1.27mm*; Footprint: Package_SO:SOIC-8_3.9x4.9mm_P1.27mm; Datasheet: http://www.ti.com/lit/ds/symlink/sn65hvd230.pdf; Description_: CAN Bus Transceivers, 3.3V, 1Mbps, Low-Power capabilities, SOIC-8
pins: 1 D, 2 GND, 3 VCC, 4 R, 5 Vref, 6 CANL, 7 CANH, 8 Rs

## SN65HVD231
designator *  value SN65HVD231  Reference: U
CAN Bus Transceivers, 3.3V, 1Mbps,Ultra Low-Power capabilities, SOIC-8; ki_keywords: can transeiver ti ulp low-power; ki_fp_filters: SOIC*3.9x4.9mm*P1.27mm*; Footprint: Package_SO:SOIC-8_3.9x4.9mm_P1.27mm; Datasheet: http://www.ti.com/lit/ds/symlink/sn65hvd230.pdf; Description_: CAN Bus Transceivers, 3.3V, 1Mbps,Ultra Low-Power capabilities, SOIC-8
pins: 1 D, 2 GND, 3 VCC, 4 R, 5 Vref, 6 CANL, 7 CANH, 8 Rs

## SN65HVD232
designator *  value SN65HVD232  Reference: U
CAN Bus Transceivers, 3.3V, 1Mbps, SOIC-8; ki_keywords: can transeiver ti; ki_fp_filters: SOIC*3.9x4.9mm*P1.27mm*; Footprint: Package_SO:SOIC-8_3.9x4.9mm_P1.27mm; Datasheet: http://www.ti.com/lit/ds/symlink/sn65hvd230.pdf; Description_: CAN Bus Transceivers, 3.3V, 1Mbps, SOIC-8
pins: 1 D, 2 GND, 3 VCC, 4 R, 5 NC, 6 CANL, 7 CANH, 8 NC

## SN65HVD233
designator *  value SN65HVD233  Reference: U
CAN Bus Transceiver, 3.3V, 1Mbps, Loopback feature, SOIC-8; ki_keywords: can transeiver ti; ki_fp_filters: SOIC*3.9x4.9mm*P1.27mm*; Footprint: Package_SO:SOIC-8_3.9x4.9mm_P1.27mm; Datasheet: http://www.ti.com/lit/ds/symlink/sn65hvd234.pdf; Description_: CAN Bus Transceiver, 3.3V, 1Mbps, Loopback feature, SOIC-8
pins: 1 D, 2 GND, 3 VCC, 4 R, 5 LBK, 6 CANL, 7 CANH, 8 Rs

## SN65HVD234
designator *  value SN65HVD234  Reference: U
CAN Bus Transceiver, 3.3V, 1Mbps, Enable feature, SOIC-8; ki_keywords: can transeiver ti; ki_fp_filters: SOIC*3.9x4.9mm*P1.27mm*; Footprint: Package_SO:SOIC-8_3.9x4.9mm_P1.27mm; Datasheet: http://www.ti.com/lit/ds/symlink/sn65hvd234.pdf; Description_: CAN Bus Transceiver, 3.3V, 1Mbps, Enable feature, SOIC-8
pins: 1 D, 2 GND, 3 VCC, 4 R, 5 EN, 6 CANL, 7 CANH, 8 Rs

## SN65HVD235
designator *  value SN65HVD235  Reference: U
CAN Bus Transceiver, 3.3V, 1Mbps, Autobaud feature, SOIC-8; ki_keywords: can transeiver ti; ki_fp_filters: SOIC*3.9x4.9mm*P1.27mm*; Footprint: Package_SO:SOIC-8_3.9x4.9mm_P1.27mm; Datasheet: http://www.ti.com/lit/ds/symlink/sn65hvd234.pdf; Description_: CAN Bus Transceiver, 3.3V, 1Mbps, Autobaud feature, SOIC-8
pins: 1 D, 2 GND, 3 VCC, 4 R, 5 AB, 6 CANL, 7 CANH, 8 Rs

## SN65HVD255D
designator *  value SN65HVD255D  Reference: U
CAN Bus Transceiver with Fast Loop Times for Highly Loaded Networks, SOIC-8; ki_keywords: can transceiver ti canbus 5.0V 1Mbps SOIC-8; ki_fp_filters: SOIC*3.9x4.9mm*P1.27mm*; Footprint: Package_SO:SOIC-8_3.9x4.9mm_P1.27mm; Datasheet: https://www.ti.com/lit/ds/symlink/sn65hvd257.pdf; Description_: CAN Bus Transceiver with Fast Loop Times for Highly Loaded Networks, SOIC-8
pins: 1 TXD, 2 GND, 3 VCC, 4 RXD, 5 NC, 6 CANL, 7 CANH, 8 S

## SN65HVD256D
designator *  value SN65HVD256D  Reference: U
CAN Bus Transceiver with Fast Loop Times for Highly Loaded Networks, SOIC-8; ki_keywords: can transceiver ti canbus 5.0V 1Mbps SOIC-8; ki_fp_filters: SOIC*3.9x4.9mm*P1.27mm*; Footprint: Package_SO:SOIC-8_3.9x4.9mm_P1.27mm; Datasheet: https://www.ti.com/lit/ds/symlink/sn65hvd257.pdf; Description_: CAN Bus Transceiver with Fast Loop Times for Highly Loaded Networks, SOIC-8
pins: 1 TXD, 2 GND, 3 VCC, 4 RXD, 5 VRXD, 6 CANL, 7 CANH, 8 S

## SN65HVD257D
designator *  value SN65HVD257D  Reference: U
CAN Bus Transceiver with Fast Loop Times for Highly Loaded Networks, SOIC-8; ki_keywords: can transceiver ti canbus 5.0V 1Mbps SOIC-8; ki_fp_filters: SOIC*3.9x4.9mm*P1.27mm*; Footprint: Package_SO:SOIC-8_3.9x4.9mm_P1.27mm; Datasheet: https://www.ti.com/lit/ds/symlink/sn65hvd257.pdf; Description_: CAN Bus Transceiver with Fast Loop Times for Highly Loaded Networks, SOIC-8
pins: 1 TXD, 2 GND, 3 VCC, 4 RXD, 5 FAULT, 6 CANL, 7 CANH, 8 S

## SN65HVD1050D
designator *  value SN65HVD1050D  Reference: U
CAN Bus Transceiver, EMC optimised, 5.0V, 1Mbps, SOIC-8; ki_keywords: can transceiver ti canbus; ki_fp_filters: SOIC*3.9x4.9mm*P1.27mm*; Footprint: Package_SO:SOIC-8_3.9x4.9mm_P1.27mm; Datasheet: http://www.ti.com/lit/ds/symlink/sn65hvd1050.pdf; Description_: CAN Bus Transceiver, EMC optimised, 5.0V, 1Mbps, SOIC-8
pins: 1 TXD, 2 GND, 3 VCC, 4 RXD, 5 VREF, 6 CANL, 7 CANH, 8 S

## TCAN330
designator *  value TCAN330  Reference: U
High-Speed CAN Transceiver, 1Mbps, 3.3V supply, silent mode, shutdown mode, SOT-23-8/SOIC-8; ki_fp_filters: *TSOT?23* *SOIC*3.9x4.9mm*P1.27mm*; Datasheet: http://www.ti.com/lit/ds/symlink/tcan337.pdf; Description_: High-Speed CAN Transceiver, 1Mbps, 3.3V supply, silent mode, shutdown mode, SOT-23-8/SOIC-8; ki_keywords: High-Speed CAN Transceiver
pins: 1 TXD, 2 GND, 3 VCC, 4 RXD, 5 SHDN, 6 CANL, 7 CANH, 8 S

## TCAN330G
designator *  value TCAN330G  Reference: U
High-Speed CAN Transceiver with CAN FD, 5Mbps, 3.3V supply, silent mode, shutdown mode, SOT-23-8/SOIC-8; ki_fp_filters: *TSOT?23* *SOIC*3.9x4.9mm*P1.27mm*; Datasheet: http://www.ti.com/lit/ds/symlink/tcan337.pdf; Description_: High-Speed CAN Transceiver with CAN FD, 5Mbps, 3.3V supply, silent mode, shutdown mode, SOT-23-8/SOIC-8; ki_keywords: High-Speed CAN Transceiver
pins: 1 TXD, 2 GND, 3 VCC, 4 RXD, 5 SHDN, 6 CANL, 7 CANH, 8 S

## TCAN332
designator *  value TCAN332  Reference: U
High-Speed CAN Transceiver, 1Mbps, 3.3V supply, SOT-23-8/SOIC-8; ki_fp_filters: *TSOT?23* *SOIC*3.9x4.9mm*P1.27mm*; Datasheet: http://www.ti.com/lit/ds/symlink/tcan337.pdf; Description_: High-Speed CAN Transceiver, 1Mbps, 3.3V supply, SOT-23-8/SOIC-8; ki_keywords: High-Speed CAN Transceiver
pins: 1 TXD, 2 GND, 3 VCC, 4 RXD, 5 NC, 6 CANL, 7 CANH, 8 NC

## TCAN332G
designator *  value TCAN332G  Reference: U
High-Speed CAN Transceiver with CAN FD, 5Mbps, 3.3V supply, SOT-23-8/SOIC-8; ki_fp_filters: *TSOT?23* *SOIC*3.9x4.9mm*P1.27mm*; Datasheet: http://www.ti.com/lit/ds/symlink/tcan337.pdf; Description_: High-Speed CAN Transceiver with CAN FD, 5Mbps, 3.3V supply, SOT-23-8/SOIC-8; ki_keywords: High-Speed CAN Transceiver
pins: 1 TXD, 2 GND, 3 VCC, 4 RXD, 5 NC, 6 CANL, 7 CANH, 8 NC

## TCAN334
designator *  value TCAN334  Reference: U
High-Speed CAN Transceiver, 1Mbps, 3.3V supply, low power standby mode, shutdown mode, SOT-23-8/SOIC-8; ki_fp_filters: *TSOT?23* *SOIC*3.9x4.9mm*P1.27mm*; Datasheet: http://www.ti.com/lit/ds/symlink/tcan337.pdf; Description_: High-Speed CAN Transceiver, 1Mbps, 3.3V supply, low power standby mode, shutdown mode, SOT-23-8/SOIC-8; ki_keywords: High-Speed CAN Transceiver
pins: 1 TXD, 2 GND, 3 VCC, 4 RXD, 5 SHDN, 6 CANL, 7 CANH, 8 STB

## TCAN334G
designator *  value TCAN334G  Reference: U
High-Speed CAN Transceiver with CAN FD, 5Mbps, 3.3V supply, low power standby mode, shutdown mode, SOT-23-8/SOIC-8; ki_fp_filters: *TSOT?23* *SOIC*3.9x4.9mm*P1.27mm*; Datasheet: http://www.ti.com/lit/ds/symlink/tcan337.pdf; Description_: High-Speed CAN Transceiver with CAN FD, 5Mbps, 3.3V supply, low power standby mode, shutdown mode, SOT-23-8/SOIC-8; ki_keywords: High-Speed CAN Transceiver
pins: 1 TXD, 2 GND, 3 VCC, 4 RXD, 5 SHDN, 6 CANL, 7 CANH, 8 STB

## TCAN337
designator *  value TCAN337  Reference: U
High-Speed CAN Transceiver, 1Mbps, 3.3V supply, silent mode, fault output, SOT-23-8/SOIC-8; Datasheet: http://www.ti.com/lit/ds/symlink/tcan337.pdf; Description_: High-Speed CAN Transceiver, 1Mbps, 3.3V supply, silent mode, fault output, SOT-23-8/SOIC-8
pins: 1 TXD, 2 GND, 3 VCC, 4 RXD, 5 FAULT, 6 CANL, 7 CANH, 8 S

## TCAN337G
designator *  value TCAN337G  Reference: U
High-Speed CAN Transceiver with CAN FD, 5Mbps, 3.3V supply, silent mode, fault output, SOT-23-8/SOIC-8; ki_fp_filters: *TSOT?23* *SOIC*3.9x4.9mm*P1.27mm*; Datasheet: http://www.ti.com/lit/ds/symlink/tcan337.pdf; Description_: High-Speed CAN Transceiver with CAN FD, 5Mbps, 3.3V supply, silent mode, fault output, SOT-23-8/SOIC-8; ki_keywords: High-Speed CAN Transceiver
pins: 1 TXD, 2 GND, 3 VCC, 4 RXD, 5 FAULT, 6 CANL, 7 CANH, 8 S

## TCAN1043xDxQ1
designator *  value TCAN1043xDxQ1  Reference: U
High-speed CAN-FD Transceiver with Sleep Mode, SOIC-14; ki_keywords: CAN FD High Speed CAN Transceiver Sleep VIO; ki_fp_filters: SOIC*3.9x8.7mm*P1.27mm*; Footprint: Package_SO:SOIC-14_3.9x8.7mm_P1.27mm; Datasheet: http://www.ti.com/lit/ds/symlink/tcan1043-q1.pdf; Description_: High-speed CAN-FD Transceiver with Sleep Mode, SOIC-14
pins: 1 TXD, 2 GND, 3 VCC, 4 RXD, 5 VIO, 6 EN, 7 INH, 8 ~{{FAULT}}, 9 WAKE, 10 VSUP, 11 NC, 12 CANL, 13 CANH, 14 ~{{STB}}

## TCAN4550RGY
designator *  value TCAN4550RGY  Reference: U
CAN-FD controller with integrated transceiver, 5Mbps, 3.3V to 5V supply, SPI interface, VQFN-20; ki_keywords: M_CAN; ki_fp_filters: *RGY*PVQFN*; Footprint: Package_DFN_QFN:Texas_RGY_R-PVQFN-N20_EP2.05x3.05mm; Datasheet: https://www.ti.com/lit/ds/symlink/tcan4550.pdf; Description_: CAN-FD controller with integrated transceiver, 5Mbps, 3.3V to 5V supply, SPI interface, VQFN-20
pins: 1 OSC1, 2 ~{{WKRQ}}, 3 GPO1, 4 SCLK, 5 SDI, 6 SDO, 7 ~{{CS}}, 8 ~{{INT}}, 9 GPO2, 10 CANL, 11 CANH, 12 WAKE, 13 GND, 14 V_{SUP}, 15 INH, 16 V_{CCOUT}, 17 V_{IO}, 18 FLTR, 19 RST, 20 OSC2, 21 GND

## TCAN4551RGYRQ1
designator *  value TCAN4551RGYRQ1  Reference: U
CAN-FD controller with integrated transceiver, 5Mbps, 3.3V to 5V supply, SPI interface, VQFN-20; ki_keywords: M_CAN; ki_fp_filters: *RGY*PVQFN*; Footprint: Package_DFN_QFN:Texas_RGY_R-PVQFN-N20_EP2.05x3.05mm; Datasheet: https://www.ti.com/lit/ds/symlink/tcan4551-q1.pdf; Description_: CAN-FD controller with integrated transceiver, 5Mbps, 3.3V to 5V supply, SPI interface, VQFN-20
pins: 1 OSC1, 2 ~{{WKRQ}}, 3 GPO1, 4 SCLK, 5 SDI, 6 SDO, 7 ~{{CS}}, 8 ~{{INT}}, 9 GPO2, 10 CANL, 11 CANH, 12 WAKE, 13 GND, 14 V_{SUP}, 15 INH, 16 V_{CCFLTR}, 17 V_{IO}, 18 FLTR, 19 RST, 20 OSC2, 21 GND

## TJA1021xT
designator *  value TJA1021xT  Reference: U
LIN 2.2A / SAE J2602 transceiver, SOIC-8; ki_keywords: NXP TJA1021T/10 TJA1021AT TJA1021BT; ki_fp_filters: SOIC*3.9x4.9mm*P1.27mm*; Footprint: Package_SO:SOIC-8_3.9x4.9mm_P1.27mm; Datasheet: https://www.nxp.com/docs/en/data-sheet/TJA1021.pdf; Description_: LIN 2.2A / SAE J2602 transceiver, SOIC-8
pins: 1 RXD, 2 ~{{SLP}}, 3 ~{{WAKE}}, 4 TXD, 5 GND, 6 LIN, 7 VBAT, 8 INH

## TJA1021xTK
designator *  value TJA1021xTK  Reference: U
LIN 2.2A / SAE J2602 transceiver, VSON-8 (DFN-8); ki_keywords: NXP TJA1021TK/10 TJA1021ATK TJA1021BTK; ki_fp_filters: *VSON*3x3mm*P0.65mm*EP1.6*x2.4*; Footprint: Package_SON:HVSON-8-1EP_3x3mm_P0.65mm_EP1.6x2.4mm; Datasheet: https://www.nxp.com/docs/en/data-sheet/TJA1021.pdf; Description_: LIN 2.2A / SAE J2602 transceiver, VSON-8 (DFN-8)
pins: 1 RXD, 2 ~{{SLP}}, 3 ~{{WAKE}}, 4 TXD, 5 GND, 6 LIN, 7 VBAT, 8 INH, 9 GND

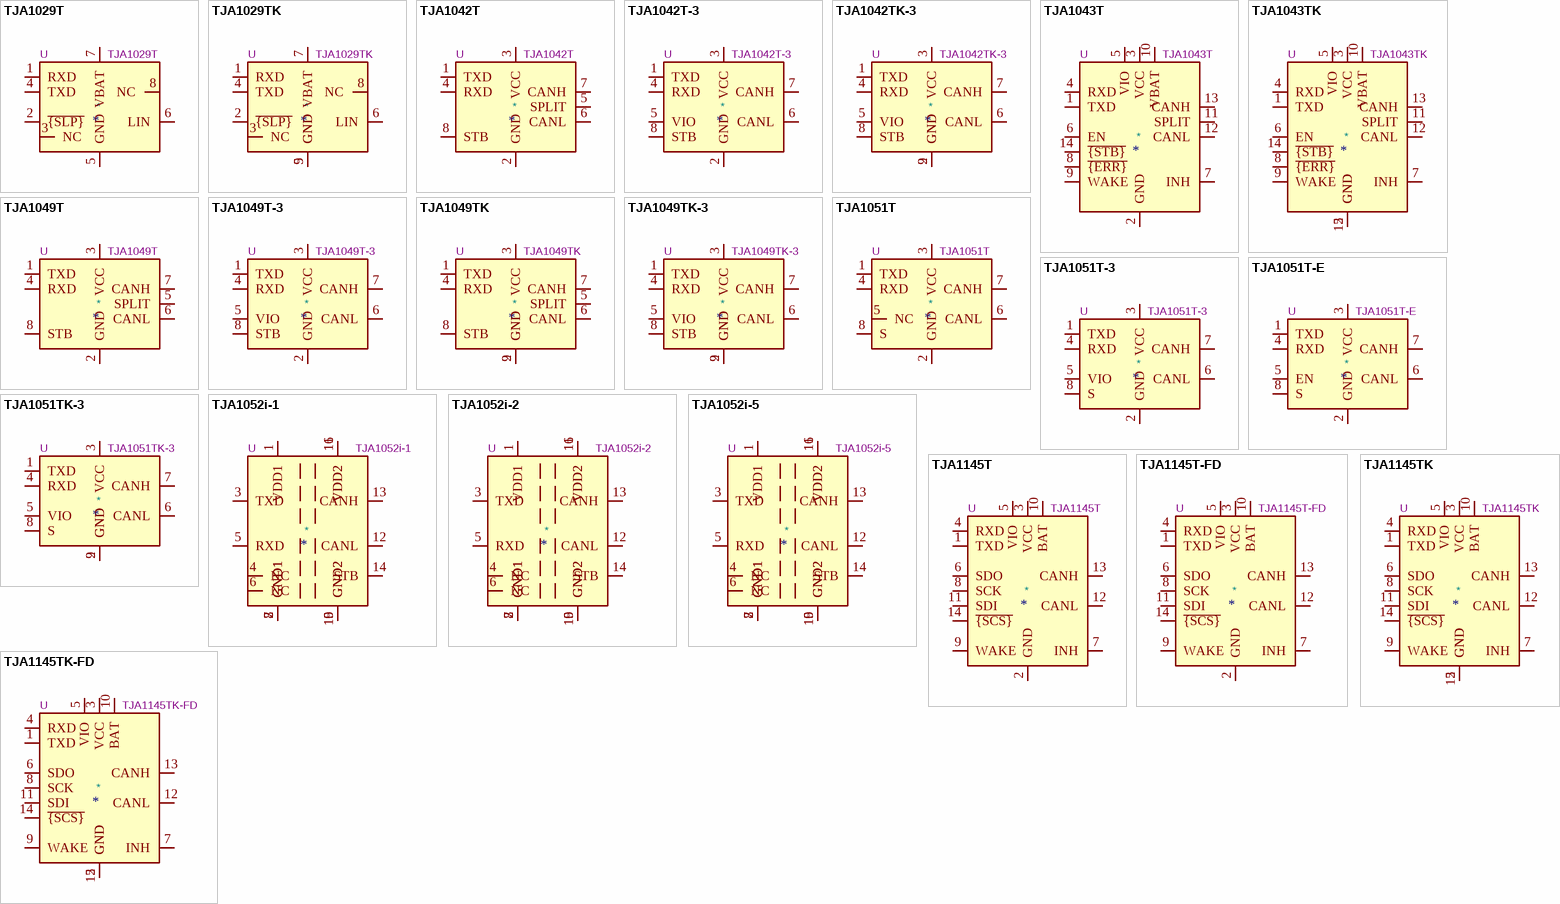
[diagram p2: symbols TJA1029T to TJA1145TK-FD]

## TJA1029T
designator *  value TJA1029T  Reference: U
LIN 2.2A/SAE J2602 transceiver with TXD dominant timeout, SOIC-8; ki_fp_filters: SOIC*3.9x4.9mm*P1.27mm*; Footprint: Package_SO:SOIC-8_3.9x4.9mm_P1.27mm; Datasheet: http://www.nxp.com/docs/en/data-sheet/TJA1029.pdf; Description_: LIN 2.2A/SAE J2602 transceiver with TXD dominant timeout, SOIC-8; ki_keywords: LIN 2.2A/SAE J2602 Transceiver
pins: 1 RXD, 2 ~{{SLP}}, 3 NC, 4 TXD, 5 GND, 6 LIN, 7 VBAT, 8 NC

## TJA1029TK
designator *  value TJA1029TK  Reference: U
LIN 2.2A / SAE J2602 transceiver with TXD dominant timeout, VSON-8 (DFN-8); ki_keywords: NXP; ki_fp_filters: *VSON*3x3mm*P0.65mm*EP1.6*x2.4*; Footprint: Package_SON:HVSON-8-1EP_3x3mm_P0.65mm_EP1.6x2.4mm; Datasheet: https://www.nxp.com/docs/en/data-sheet/TJA1029.pdf; Description_: LIN 2.2A / SAE J2602 transceiver with TXD dominant timeout, VSON-8 (DFN-8)
pins: 1 RXD, 2 ~{{SLP}}, 3 NC, 4 TXD, 5 GND, 6 LIN, 7 VBAT, 8 NC, 9 GND

## TJA1042T
designator *  value TJA1042T  Reference: U
High-Speed CAN Transceiver, standby mode, split pin, SOIC-8; ki_fp_filters: SOIC*3.9x4.9mm*P1.27mm*; Footprint: Package_SO:SOIC-8_3.9x4.9mm_P1.27mm; Datasheet: http://www.nxp.com/docs/en/data-sheet/TJA1042.pdf; Description_: High-Speed CAN Transceiver, standby mode, split pin, SOIC-8; ki_keywords: High-Speed CAN Transceiver
pins: 1 TXD, 2 GND, 3 VCC, 4 RXD, 5 SPLIT, 6 CANL, 7 CANH, 8 STB

## TJA1042T-3
designator *  value TJA1042T-3  Reference: U
High-Speed CAN Transceiver, separate VIO, standby mode, SOIC-8; ki_fp_filters: SOIC*3.9x4.9mm*P1.27mm*; Footprint: Package_SO:SOIC-8_3.9x4.9mm_P1.27mm; Datasheet: http://www.nxp.com/docs/en/data-sheet/TJA1042.pdf; Description_: High-Speed CAN Transceiver, separate VIO, standby mode, SOIC-8; ki_keywords: High-Speed CAN Transceiver
pins: 1 TXD, 2 GND, 3 VCC, 4 RXD, 5 VIO, 6 CANL, 7 CANH, 8 STB

## TJA1042TK-3
designator *  value TJA1042TK-3  Reference: U
High-Speed CAN Transceiver, separate VIO, standby mode, VSON-8 (DFN-8); ki_keywords: TJA1042TK/3; ki_fp_filters: *VSON*3x3mm*P0.65mm*EP1.6*x2.4*; Footprint: Package_SON:HVSON-8-1EP_3x3mm_P0.65mm_EP1.6x2.4mm; Datasheet: https://www.nxp.com/docs/en/data-sheet/TJA1042.pdf; Description_: High-Speed CAN Transceiver, separate VIO, standby mode, VSON-8 (DFN-8)
pins: 1 TXD, 2 GND, 3 VCC, 4 RXD, 5 VIO, 6 CANL, 7 CANH, 8 STB, 9 GND

## TJA1043T
designator *  value TJA1043T  Reference: U
High-speed CAN-FD Transceiver with Sleep Mode, SOIC-14; ki_keywords: CAN FD High Speed CAN Transceiver Sleep Split-Pin VIO; ki_fp_filters: SOIC*3.9x8.7mm*P1.27mm*; Footprint: Package_SO:SOIC-14_3.9x8.7mm_P1.27mm; Datasheet: https://www.nxp.com/docs/en/data-sheet/TJA1043.pdf; Description_: High-speed CAN-FD Transceiver with Sleep Mode, SOIC-14
pins: 1 TXD, 2 GND, 3 VCC, 4 RXD, 5 VIO, 6 EN, 7 INH, 8 ~{{ERR}}, 9 WAKE, 10 VBAT, 11 SPLIT, 12 CANL, 13 CANH, 14 ~{{STB}}

## TJA1043TK
designator *  value TJA1043TK  Reference: U
High-speed CAN-FD Transceiver with Sleep Mode, HVSON-14; ki_keywords: CAN FD High Speed CAN Transceiver Sleep Split-Pin VIO; ki_fp_filters: DFN*1EP*3x4.5mm*P0.65mm*; Footprint: Package_DFN_QFN:DFN-14-1EP_3x4.5mm_P0.65mm_EP1.65x4.25mm; Datasheet: https://www.nxp.com/docs/en/data-sheet/TJA1043.pdf; Description_: High-speed CAN-FD Transceiver with Sleep Mode, HVSON-14
pins: 1 TXD, 2 GND, 3 VCC, 4 RXD, 5 VIO, 6 EN, 7 INH, 8 ~{{ERR}}, 9 WAKE, 10 VBAT, 11 SPLIT, 12 CANL, 13 CANH, 14 ~{{STB}}, 15 GND

## TJA1049T
designator *  value TJA1049T  Reference: U
High-Speed CAN Transceiver, standby mode, split pin, SOIC-8; ki_fp_filters: SOIC*3.9x4.9mm*P1.27mm*; Footprint: Package_SO:SOIC-8_3.9x4.9mm_P1.27mm; Datasheet: http://www.nxp.com/docs/en/data-sheet/TJA1049.pdf; Description_: High-Speed CAN Transceiver, standby mode, split pin, SOIC-8; ki_keywords: High-Speed CAN Transceiver
pins: 1 TXD, 2 GND, 3 VCC, 4 RXD, 5 SPLIT, 6 CANL, 7 CANH, 8 STB

## TJA1049T-3
designator *  value TJA1049T-3  Reference: U
High-Speed CAN Transceiver, separate VIO, standby mode, SOIC-8; ki_fp_filters: SOIC*3.9x4.9mm*P1.27mm*; Footprint: Package_SO:SOIC-8_3.9x4.9mm_P1.27mm; Datasheet: http://www.nxp.com/docs/en/data-sheet/TJA1049.pdf; Description_: High-Speed CAN Transceiver, separate VIO, standby mode, SOIC-8; ki_keywords: High-Speed CAN Transceiver
pins: 1 TXD, 2 GND, 3 VCC, 4 RXD, 5 VIO, 6 CANL, 7 CANH, 8 STB

## TJA1049TK
designator *  value TJA1049TK  Reference: U
High-Speed CAN Transceiver, standby mode, VSON-8 (DFN-8); ki_keywords: NXP; ki_fp_filters: *VSON*3x3mm*P0.65mm*EP1.6*x2.4*; Footprint: Package_SON:HVSON-8-1EP_3x3mm_P0.65mm_EP1.6x2.4mm; Datasheet: https://www.nxp.com/docs/en/data-sheet/TJA1049.pdf; Description_: High-Speed CAN Transceiver, standby mode, VSON-8 (DFN-8)
pins: 1 TXD, 2 GND, 3 VCC, 4 RXD, 5 SPLIT, 6 CANL, 7 CANH, 8 STB, 9 GND

## TJA1049TK-3
designator *  value TJA1049TK-3  Reference: U
High-Speed CAN Transceiver, separate VIO, standby mode, VSON-8 (DFN-8); ki_keywords: TJA1049TK/3; ki_fp_filters: *VSON*3x3mm*P0.65mm*EP1.6*x2.4*; Footprint: Package_SON:HVSON-8-1EP_3x3mm_P0.65mm_EP1.6x2.4mm; Datasheet: https://www.nxp.com/docs/en/data-sheet/TJA1049.pdf; Description_: High-Speed CAN Transceiver, separate VIO, standby mode, VSON-8 (DFN-8)
pins: 1 TXD, 2 GND, 3 VCC, 4 RXD, 5 VIO, 6 CANL, 7 CANH, 8 STB, 9 GND

## TJA1051T
designator *  value TJA1051T  Reference: U
High-Speed CAN Transceiver, silent mode, SOIC-8; ki_fp_filters: SOIC*3.9x4.9mm*P1.27mm*; Footprint: Package_SO:SOIC-8_3.9x4.9mm_P1.27mm; Datasheet: http://www.nxp.com/docs/en/data-sheet/TJA1051.pdf; Description_: High-Speed CAN Transceiver, silent mode, SOIC-8; ki_keywords: High-Speed CAN Transceiver
pins: 1 TXD, 2 GND, 3 VCC, 4 RXD, 5 NC, 6 CANL, 7 CANH, 8 S

## TJA1051T-3
designator *  value TJA1051T-3  Reference: U
High-Speed CAN Transceiver, separate VIO, silent mode, SOIC-8; ki_fp_filters: SOIC*3.9x4.9mm*P1.27mm*; Footprint: Package_SO:SOIC-8_3.9x4.9mm_P1.27mm; Datasheet: http://www.nxp.com/docs/en/data-sheet/TJA1051.pdf; Description_: High-Speed CAN Transceiver, separate VIO, silent mode, SOIC-8; ki_keywords: High-Speed CAN Transceiver
pins: 1 TXD, 2 GND, 3 VCC, 4 RXD, 5 VIO, 6 CANL, 7 CANH, 8 S

## TJA1051T-E
designator *  value TJA1051T-E  Reference: U
High-Speed CAN Transceiver, enable pin, silent mode, SOIC-8; ki_fp_filters: SOIC*3.9x4.9mm*P1.27mm*; Footprint: Package_SO:SOIC-8_3.9x4.9mm_P1.27mm; Datasheet: http://www.nxp.com/docs/en/data-sheet/TJA1051.pdf; Description_: High-Speed CAN Transceiver, enable pin, silent mode, SOIC-8; ki_keywords: High-Speed CAN Transceiver
pins: 1 TXD, 2 GND, 3 VCC, 4 RXD, 5 EN, 6 CANL, 7 CANH, 8 S

## TJA1051TK-3
designator *  value TJA1051TK-3  Reference: U
High-Speed CAN Transceiver, separate VIO, silent mode, VSON-8 (DFN-8); ki_keywords: TJA1051TK/3; ki_fp_filters: *VSON*3x3mm*P0.65mm*EP1.6*x2.4*; Footprint: Package_SON:HVSON-8-1EP_3x3mm_P0.65mm_EP1.6x2.4mm; Datasheet: https://www.nxp.com/docs/en/data-sheet/TJA1051.pdf; Description_: High-Speed CAN Transceiver, separate VIO, silent mode, VSON-8 (DFN-8)
pins: 1 TXD, 2 GND, 3 VCC, 4 RXD, 5 VIO, 6 CANL, 7 CANH, 8 S, 9 GND

## TJA1052i-1
designator *  value TJA1052i-1  Reference: U
Isolated CAN Transceiver 1.0kV, up to 5Mbps; ki_keywords: can transceiver isolated protected; ki_fp_filters: SOIC*7.5x10.3mm*P1.27mm*; Footprint: Package_SO:SOIC-16W_7.5x10.3mm_P1.27mm; Datasheet: https://www.nxp.com/docs/en/data-sheet/TJA1052I.pdf; Description_: Isolated CAN Transceiver 1.0kV, up to 5Mbps
pins: 1 VDD1, 2 GND1, 3 TXD, 4 NC, 5 RXD, 6 NC, 7 GND1, 8 GND1, 9 GND2, 10 GND2, 11 VDD2, 12 CANL, 13 CANH, 14 STB, 15 GND2, 16 VDD2

## TJA1052i-2
designator *  value TJA1052i-2  Reference: U
Isolated CAN Transceiver 2.5kV, up to 5Mbps; ki_keywords: can transceiver isolated protected; ki_fp_filters: SOIC*7.5x10.3mm*P1.27mm*; Footprint: Package_SO:SOIC-16W_7.5x10.3mm_P1.27mm; Datasheet: https://www.nxp.com/docs/en/data-sheet/TJA1052I.pdf; Description_: Isolated CAN Transceiver 2.5kV, up to 5Mbps
pins: 1 VDD1, 2 GND1, 3 TXD, 4 NC, 5 RXD, 6 NC, 7 GND1, 8 GND1, 9 GND2, 10 GND2, 11 VDD2, 12 CANL, 13 CANH, 14 STB, 15 GND2, 16 VDD2

## TJA1052i-5
designator *  value TJA1052i-5  Reference: U
Isolated CAN Transceiver 5.0kV, up to 5Mbps; ki_keywords: can transceiver isolated protected; ki_fp_filters: SOIC*7.5x10.3mm*P1.27mm*; Footprint: Package_SO:SOIC-16W_7.5x10.3mm_P1.27mm; Datasheet: https://www.nxp.com/docs/en/data-sheet/TJA1052I.pdf; Description_: Isolated CAN Transceiver 5.0kV, up to 5Mbps
pins: 1 VDD1, 2 GND1, 3 TXD, 4 NC, 5 RXD, 6 NC, 7 GND1, 8 GND1, 9 GND2, 10 GND2, 11 VDD2, 12 CANL, 13 CANH, 14 STB, 15 GND2, 16 VDD2

## TJA1145T
designator *  value TJA1145T  Reference: U
High-speed CAN transceiver for partial networking, SOIC-14; ki_keywords: CAN FD High Speed CAN Transceiver Sleep VIO Partial Networking SPI; ki_fp_filters: SOIC*3.9x8.7mm*P1.27mm*; Footprint: Package_SO:SOIC-14_3.9x8.7mm_P1.27mm; Datasheet: https://www.nxp.com/docs/en/data-sheet/TJA1145.pdf; Description_: High-speed CAN transceiver for partial networking, SOIC-14
pins: 1 TXD, 2 GND, 3 VCC, 4 RXD, 5 VIO, 6 SDO, 7 INH, 8 SCK, 9 WAKE, 10 BAT, 11 SDI, 12 CANL, 13 CANH, 14 ~{{SCS}}

## TJA1145T-FD
designator *  value TJA1145T-FD  Reference: U
High-speed CAN transceiver for partial networking with FD-passive function, SOIC-14; ki_keywords: CAN FD High Speed CAN Transceiver Sleep VIO Partial Networking SPI; ki_fp_filters: SOIC*3.9x8.7mm*P1.27mm*; Footprint: Package_SO:SOIC-14_3.9x8.7mm_P1.27mm; Datasheet: https://www.nxp.com/docs/en/data-sheet/TJA1145.pdf; Description_: High-speed CAN transceiver for partial networking with FD-passive function, SOIC-14
pins: 1 TXD, 2 GND, 3 VCC, 4 RXD, 5 VIO, 6 SDO, 7 INH, 8 SCK, 9 WAKE, 10 BAT, 11 SDI, 12 CANL, 13 CANH, 14 ~{{SCS}}

## TJA1145TK
designator *  value TJA1145TK  Reference: U
High-speed CAN transceiver for partial networking, DFN-14; ki_keywords: CAN FD High Speed CAN Transceiver Sleep VIO Partial Networking SPI; ki_fp_filters: DFN*1EP*3x4.5mm*P0.65mm*; Footprint: Package_DFN_QFN:DFN-14-1EP_3x4.5mm_P0.65mm_EP1.65x4.25mm; Datasheet: https://www.nxp.com/docs/en/data-sheet/TJA1145.pdf; Description_: High-speed CAN transceiver for partial networking, DFN-14
pins: 1 TXD, 2 GND, 3 VCC, 4 RXD, 5 VIO, 6 SDO, 7 INH, 8 SCK, 9 WAKE, 10 BAT, 11 SDI, 12 CANL, 13 CANH, 14 ~{{SCS}}, 15 GND